# Altium footprint library PcbLib1.PcbLib: 17 footprints (part 1 of 3)
Each footprint in its own frame and in the unit in brackets; x right, y up, seen from the top. Pads: shape width x height; smd on the part's side, far side on the other; paste and mask are expansions set on the pad; w line width, h text height; cw(c..) or ccw(c..) is an arc to the next point about the centre after c.
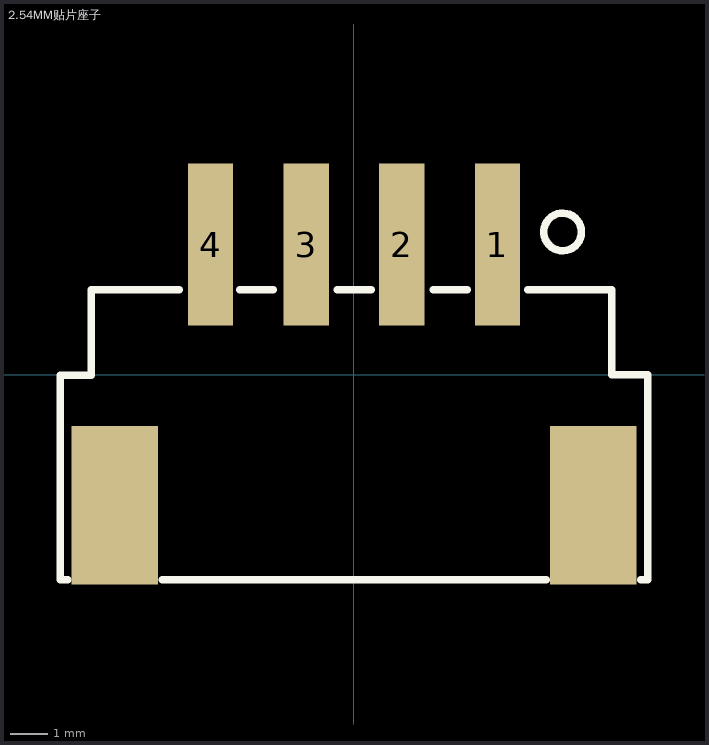
[diagram p0: the footprint, top view; thin cyan lines are the x and y axes]

## 2.54MM贴片座子 [mm]
pads (6):
  rect 1.2x4.3 smd: 1(3.81,3.462) 2(1.27,3.462) 3(-1.27,3.462) 4(-3.81,3.462)
  rect 2.3x4.2 smd: ""(-6.35,-3.462) ""(6.35,-3.462)
Top Overlay:
  circle w0.2: c5.54,3.797 r0.5
  lines w0.2: -7.705,-0.002 -6.981,-0.002 ; -7.606,-5.436 -7.8,-5.436 -7.8,-0.008 -7.794,-0.002 -6.981,-0.002 ; -5.54,2.262 -4.64,2.262 ; -5.085,-5.438 5.111,-5.438 ; -4.697,2.26 -6.981,2.26 -6.981,-0.002 ; -3.04,2.262 -2.14,2.262 ; -0.44,2.262 0.46,2.262 ; 2.11,2.262 3.01,2.262 ; 4.61,2.262 6.846,2.262 6.846,0 7.57,0 7.8,0 7.8,-5.425 ; 7.618,-5.438 7.799,-5.438